# Altium footprint library C_THT.PcbLib: 71 footprints (part 4 of 5)
Each footprint in its own frame and in the unit in brackets; x right, y up, seen from the top. Pads: shape width x height; smd on the part's side, far side on the other; paste and mask are expansions set on the pad; w line width, h text height; cw(c..) or ccw(c..) is an arc to the next point about the centre after c.
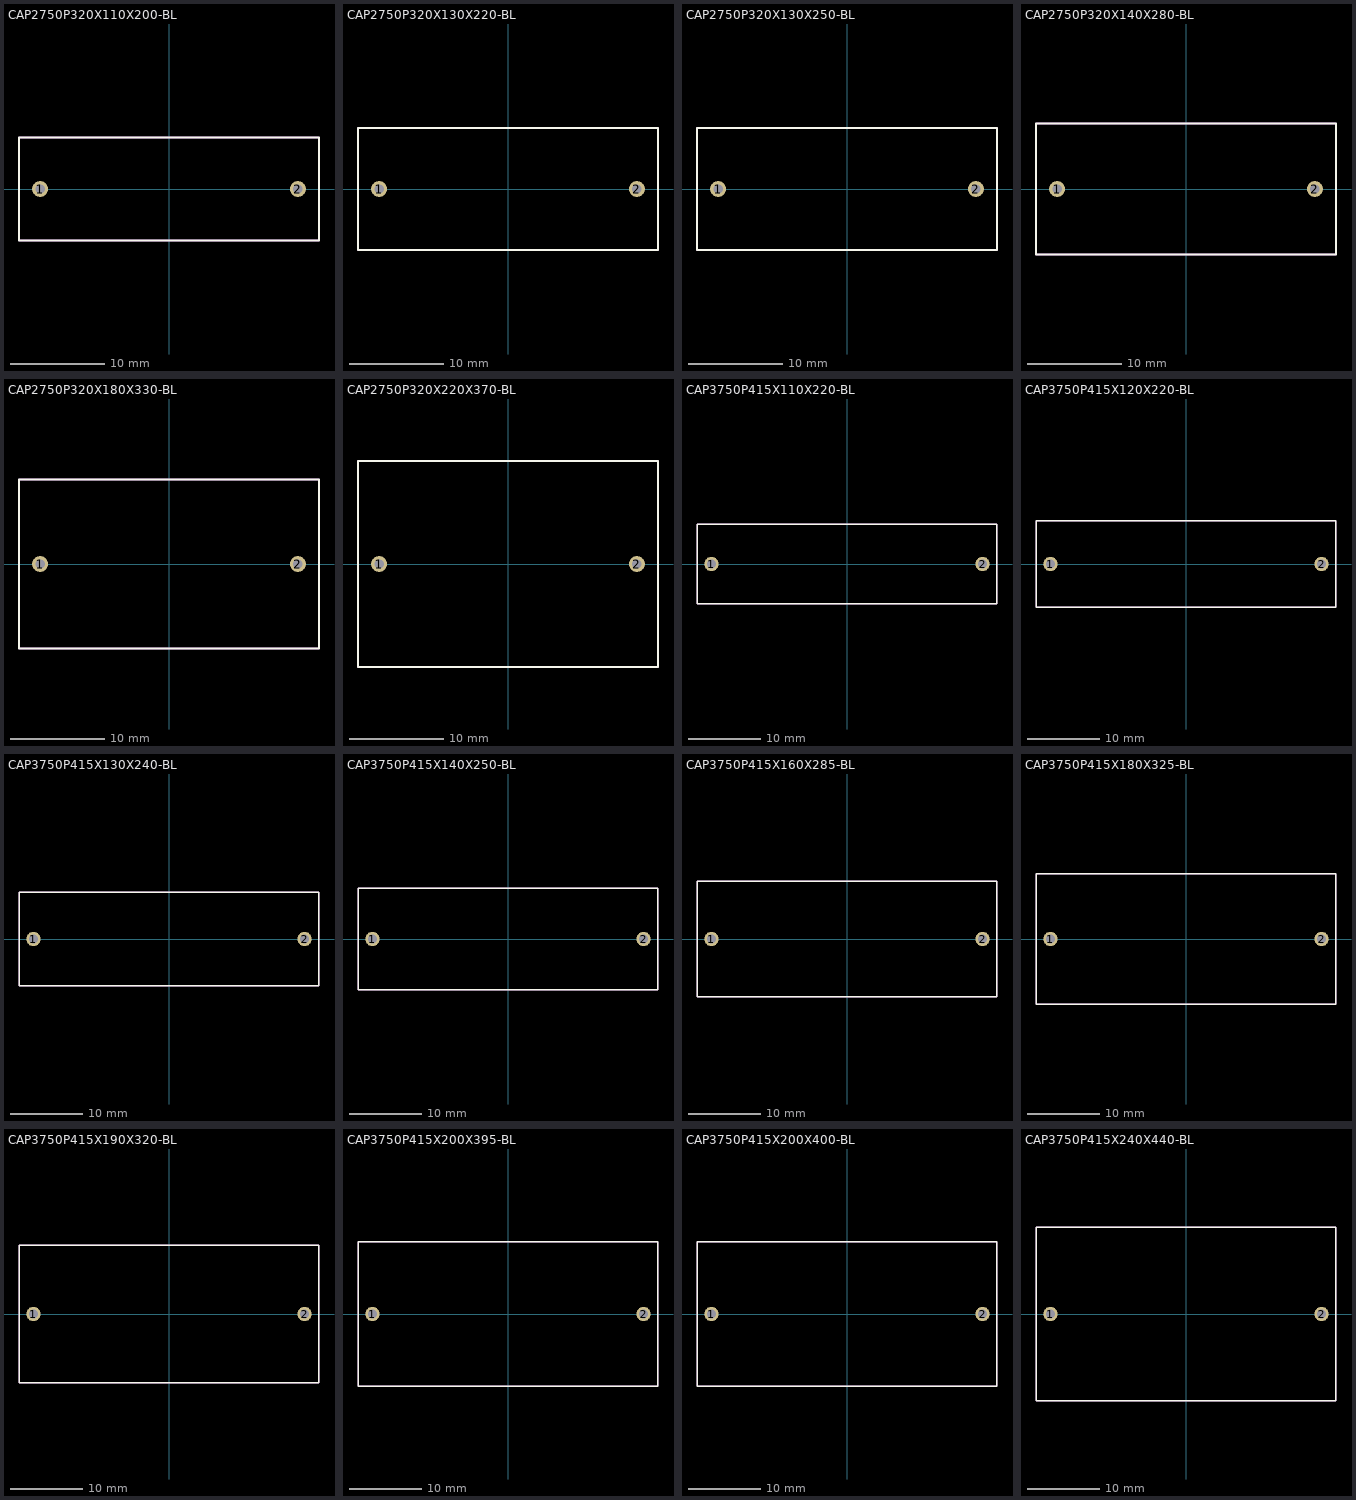
[diagram p3: the footprints below, top view; thin cyan lines are the x and y axes]

## CAP2750P320X110X200-BL [mm]
pads (2):
  round 1.7 hole 1: 1(-13.75,0) 2(13.75,0)
Top Overlay:
  lines w0.2: -16,-5.5 -16,5.5 16,5.5 16,-5.5 -16,-5.5
Top Assembly:
  lines w0.2: -16,-5.5 -16,5.5 16,5.5 16,-5.5 -16,-5.5
3D body: height 0, standoff -4, extent -14.15,-0.4 -13.35,0.4
3D body: height 0, standoff -4, extent 13.35,-0.4 14.15,0.4
3D body: height 20, standoff 0, extent -16,-5.5 16,5.5

## CAP2750P320X130X220-BL [mm]
pads (2):
  round 1.7 hole 1: 1(-13.75,0) 2(13.75,0)
Top Overlay:
  lines w0.2: -16,-6.5 16,-6.5 16,6.5 -16,6.5 -16,-6.5
Top Assembly:
  lines w0.2: -16,-6.5 16,-6.5 16,6.5 -16,6.5 -16,-6.5
3D body: height 22, standoff 0, extent -16,-6.5 16,6.5
3D body: height 0, standoff -4, extent 13.35,-0.4 14.15,0.4
3D body: height 0, standoff -4, extent -14.15,-0.4 -13.35,0.4

## CAP2750P320X130X250-BL [mm]
pads (2):
  round 1.7 hole 1: 1(-13.75,0) 2(13.75,0)
Top Overlay:
  lines w0.2: -16,-6.5 -16,6.5 16,6.5 16,-6.5 -16,-6.5
Top Assembly:
  lines w0.2: -16,-6.5 -16,6.5 16,6.5 16,-6.5 -16,-6.5
3D body: height 0, standoff -4, extent -14.15,-0.4 -13.35,0.4
3D body: height 0, standoff -4, extent 13.35,-0.4 14.15,0.4
3D body: height 25, standoff 0, extent -16,-6.5 16,6.5

## CAP2750P320X140X280-BL [mm]
pads (2):
  round 1.7 hole 1: 1(-13.75,0) 2(13.75,0)
Top Overlay:
  lines w0.2: -16,-7 16,-7 16,7 -16,7 -16,-7
Top Assembly:
  lines w0.2: -16,-7 16,-7 16,7 -16,7 -16,-7
3D body: height 28, standoff 0, extent -16,-7 16,7
3D body: height 0, standoff -4, extent 13.35,-0.4 14.15,0.4
3D body: height 0, standoff -4, extent -14.15,-0.4 -13.35,0.4

## CAP2750P320X180X330-BL [mm]
pads (2):
  round 1.7 hole 1: 1(-13.75,0) 2(13.75,0)
Top Overlay:
  lines w0.2: -16,-9 16,-9 16,9 -16,9 -16,-9
Top Assembly:
  lines w0.2: -16,-9 16,-9 16,9 -16,9 -16,-9
3D body: height 33, standoff 0, extent -16,-9 16,9
3D body: height 0, standoff -4, extent 13.35,-0.4 14.15,0.4
3D body: height 0, standoff -4, extent -14.15,-0.4 -13.35,0.4

## CAP2750P320X220X370-BL [mm]
pads (2):
  round 1.7 hole 1: 1(-13.75,0) 2(13.75,0)
Top Overlay:
  lines w0.2: -16,-11 -16,11 16,11 16,-11 -16,-11
Top Assembly:
  lines w0.2: -16,-11 -16,11 16,11 16,-11 -16,-11
3D body: height 0, standoff -4, extent -14.15,-0.4 -13.35,0.4
3D body: height 0, standoff -4, extent 13.35,-0.4 14.15,0.4
3D body: height 37, standoff 0, extent -16,-11 16,11

## CAP3750P415X110X220-BL [mm]
pads (2):
  round 2 hole 1.2: 1(-18.75,0) 2(18.75,0)
Top Overlay:
  lines w0.2: -20.75,-5.5 -20.75,5.5 20.75,5.5 20.75,-5.5 -20.75,-5.5
Top Assembly:
  lines w0.2: -20.75,-5.5 -20.75,5.5 20.75,5.5 20.75,-5.5 -20.75,-5.5
3D body: height 0, standoff -4, extent -19.25,-0.5 -18.25,0.5
3D body: height 0, standoff -4, extent 18.25,-0.5 19.25,0.5
3D body: height 22, standoff 0, extent -20.75,-5.5 20.75,5.5

## CAP3750P415X120X220-BL [mm]
pads (2):
  round 2 hole 1.2: 1(-18.75,0) 2(18.75,0)
Top Overlay:
  lines w0.2: -20.75,-6 20.75,-6 20.75,6 -20.75,6 -20.75,-6
Top Assembly:
  lines w0.2: -20.75,-6 20.75,-6 20.75,6 -20.75,6 -20.75,-6
3D body: height 22, standoff 0, extent -20.75,-6 20.75,6
3D body: height 0, standoff -4, extent 18.25,-0.5 19.25,0.5
3D body: height 0, standoff -4, extent -19.25,-0.5 -18.25,0.5

## CAP3750P415X130X240-BL [mm]
pads (2):
  round 2 hole 1.2: 1(-18.75,0) 2(18.75,0)
Top Overlay:
  lines w0.2: -20.75,-6.5 20.75,-6.5 20.75,6.5 -20.75,6.5 -20.75,-6.5
Top Assembly:
  lines w0.2: -20.75,-6.5 20.75,-6.5 20.75,6.5 -20.75,6.5 -20.75,-6.5
3D body: height 24, standoff 0, extent -20.75,-6.5 20.75,6.5
3D body: height 0, standoff -4, extent 18.25,-0.5 19.25,0.5
3D body: height 0, standoff -4, extent -19.25,-0.5 -18.25,0.5

## CAP3750P415X140X250-BL [mm]
pads (2):
  round 2 hole 1.2: 1(-18.75,0) 2(18.75,0)
Top Overlay:
  lines w0.2: -20.75,-7 20.75,-7 20.75,7 -20.75,7 -20.75,-7
Top Assembly:
  lines w0.2: -20.75,-7 20.75,-7 20.75,7 -20.75,7 -20.75,-7
3D body: height 25, standoff 0, extent -20.75,-7 20.75,7
3D body: height 0, standoff -4, extent 18.25,-0.5 19.25,0.5
3D body: height 0, standoff -4, extent -19.25,-0.5 -18.25,0.5

## CAP3750P415X160X285-BL [mm]
pads (2):
  round 2 hole 1.2: 1(-18.75,0) 2(18.75,0)
Top Overlay:
  lines w0.2: -20.75,-8 20.75,-8 20.75,8 -20.75,8 -20.75,-8
Top Assembly:
  lines w0.2: -20.75,-8 20.75,-8 20.75,8 -20.75,8 -20.75,-8
3D body: height 28.5, standoff 0, extent -20.75,-8 20.75,8
3D body: height 0, standoff -4, extent 18.25,-0.5 19.25,0.5
3D body: height 0, standoff -4, extent -19.25,-0.5 -18.25,0.5

## CAP3750P415X180X325-BL [mm]
pads (2):
  round 2 hole 1.2: 1(-18.75,0) 2(18.75,0)
Top Overlay:
  lines w0.2: -20.75,-9 20.75,-9 20.75,9 -20.75,9 -20.75,-9
Top Assembly:
  lines w0.2: -20.75,-9 20.75,-9 20.75,9 -20.75,9 -20.75,-9
3D body: height 32.5, standoff 0, extent -20.75,-9 20.75,9
3D body: height 0, standoff -4, extent 18.25,-0.5 19.25,0.5
3D body: height 0, standoff -4, extent -19.25,-0.5 -18.25,0.5

## CAP3750P415X190X320-BL [mm]
pads (2):
  round 2 hole 1.2: 1(-18.75,0) 2(18.75,0)
Top Overlay:
  lines w0.2: -20.75,-9.5 -20.75,9.5 20.75,9.5 20.75,-9.5 -20.75,-9.5
Top Assembly:
  lines w0.2: -20.75,-9.5 -20.75,9.5 20.75,9.5 20.75,-9.5 -20.75,-9.5
3D body: height 0, standoff -4, extent -19.25,-0.5 -18.25,0.5
3D body: height 0, standoff -4, extent 18.25,-0.5 19.25,0.5
3D body: height 32, standoff 0, extent -20.75,-9.5 20.75,9.5

## CAP3750P415X200X395-BL [mm]
pads (2):
  round 2 hole 1.2: 1(-18.75,0) 2(18.75,0)
Top Overlay:
  lines w0.2: -20.75,-10 -20.75,10 20.75,10 20.75,-10 -20.75,-10
Top Assembly:
  lines w0.2: -20.75,-10 -20.75,10 20.75,10 20.75,-10 -20.75,-10
3D body: height 0, standoff -4, extent -19.25,-0.5 -18.25,0.5
3D body: height 0, standoff -4, extent 18.25,-0.5 19.25,0.5
3D body: height 39.5, standoff 0, extent -20.75,-10 20.75,10

## CAP3750P415X200X400-BL [mm]
pads (2):
  round 2 hole 1.2: 1(-18.75,0) 2(18.75,0)
Top Overlay:
  lines w0.2: -20.75,-10 -20.75,10 20.75,10 20.75,-10 -20.75,-10
Top Assembly:
  lines w0.2: -20.75,-10 -20.75,10 20.75,10 20.75,-10 -20.75,-10
3D body: height 0, standoff -4, extent -19.25,-0.5 -18.25,0.5
3D body: height 0, standoff -4, extent 18.25,-0.5 19.25,0.5
3D body: height 40, standoff 0, extent -20.75,-10 20.75,10

## CAP3750P415X240X440-BL [mm]
pads (2):
  round 2 hole 1.2: 1(-18.75,0) 2(18.75,0)
Top Overlay:
  lines w0.2: -20.75,-12 20.75,-12 20.75,12 -20.75,12 -20.75,-12
Top Assembly:
  lines w0.2: -20.75,-12 20.75,-12 20.75,12 -20.75,12 -20.75,-12
3D body: height 44, standoff 0, extent -20.75,-12 20.75,12
3D body: height 0, standoff -4, extent 18.25,-0.5 19.25,0.5
3D body: height 0, standoff -4, extent -19.25,-0.5 -18.25,0.5